# Altium schematic symbol library LiDAR.SchLib: 1 symbol
Pins are listed as number, name and electrical type; pins without a type are passive.

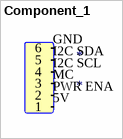
[diagram p0: symbol Component_1]

## Component_1
designator *
pins: 5V 1, GND 6, I2C SCL 4, I2C SDA 5, MC 3, PWR ENA 2